# Altium footprint library QSS-048-01-X-D-DP-A.PcbLib: 1 footprints
Each footprint in its own frame and in the unit in brackets; x right, y up, seen from the top. Pads: shape width x height; smd on the part's side, far side on the other; paste and mask are expansions set on the pad; w line width, h text height; cw(c..) or ccw(c..) is an arc to the next point about the centre after c.
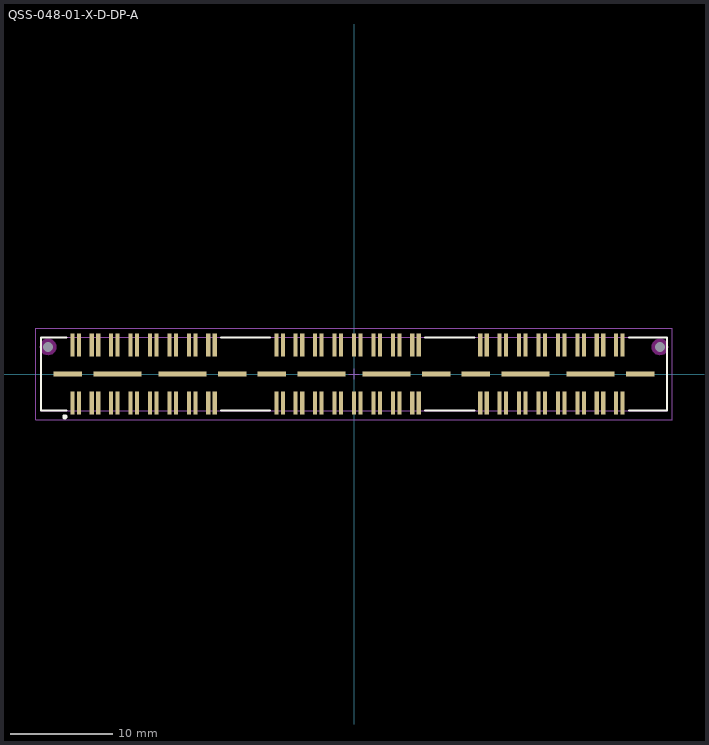
[diagram p0: the footprint, top view; thin cyan lines are the x and y axes]

## QSS-048-01-X-D-DP-A [mm] "0.635mm pitch, high speed socket; differential pair array"
height 3.43
pads (110):
  rect 0.4x2.25 smd mask+0: 1(-27.62,-2.865) 2(-27.62,2.865) 3(-26.98,-2.865) 4(-26.98,2.865) 5(-25.716,-2.865) 6(-25.716,2.865) 7(-25.076,-2.865) 8(-25.076,2.865) 9(-23.812,-2.865) 10(-23.812,2.865) 11(-23.172,-2.865) 12(-23.172,2.865) 13(-21.908,-2.865) 14(-21.908,2.865) 15(-21.268,-2.865) 16(-21.268,2.865) 17(-20.004,-2.865) 18(-20.004,2.865) 19(-19.364,-2.865) 20(-19.364,2.865) 21(-18.1,-2.865) 22(-18.1,2.865) 23(-17.46,-2.865) 24(-17.46,2.865) 25(-16.196,-2.865) 26(-16.196,2.865) 27(-15.556,-2.865) 28(-15.556,2.865) 29(-14.292,-2.865) 30(-14.292,2.865) 31(-13.652,-2.865) 32(-13.652,2.865) 33(-7.62,-2.865) 34(-7.62,2.865) 35(-6.98,-2.865) 36(-6.98,2.865) 37(-5.716,-2.865) 38(-5.716,2.865) 39(-5.076,-2.865) 40(-5.076,2.865) 41(-3.812,-2.865) 42(-3.812,2.865) 43(-3.172,-2.865) 44(-3.172,2.865) 45(-1.908,-2.865) 46(-1.908,2.865) 47(-1.268,-2.865) 48(-1.268,2.865) 49(-0.004,-2.865) 50(-0.004,2.865) 51(0.636,-2.865) 52(0.636,2.865) 53(1.9,-2.865) 54(1.9,2.865) 55(2.54,-2.865) 56(2.54,2.865) 57(3.804,-2.865) 58(3.804,2.865) 59(4.444,-2.865) 60(4.444,2.865) 61(5.708,-2.865) 62(5.708,2.865) 63(6.348,-2.865) 64(6.348,2.865) 65(12.38,-2.865) 66(12.38,2.865) 67(13.02,-2.865) 68(13.02,2.865) 69(14.284,-2.865) 70(14.284,2.865) 71(14.924,-2.865) 72(14.924,2.865) 73(16.188,-2.865) 74(16.188,2.865) 75(16.828,-2.865) 76(16.828,2.865) 77(18.092,-2.865) 78(18.092,2.865) 79(18.732,-2.865) 80(18.732,2.865) 81(19.996,-2.865) 82(19.996,2.865) 83(20.636,-2.865) 84(20.636,2.865) 85(21.9,-2.865) 86(21.9,2.865) 87(22.54,-2.865) 88(22.54,2.865) 89(23.804,-2.865) 90(23.804,2.865) 91(24.444,-2.865) 92(24.444,2.865) 93(25.708,-2.865) 94(25.708,2.865) 95(26.348,-2.865) 96(26.348,2.865)
  rect 2.8x0.45 smd mask+0: 97(-28.065,0) 100(-11.935,0) 101(-8.065,0) 104(8.065,0) 105(11.935,0) 108(28.065,0)
  rect 4.7x0.45 smd mask+0: 98(-23.175,0) 99(-16.825,0) 102(-3.175,0) 103(3.175,0) 106(16.825,0) 107(23.175,0)
  round 0.5 hole 1 unplated mask+0: 109(-30,2.655) 110(30,2.655)
Top Overlay:
  circle w0.25: c-28.35,-4.2 r0.125
  lines w0.2: -28.2,-3.6 -30.7,-3.6 -30.7,3.6 -28.2,3.6 ; -13.05,-3.6 -8.25,-3.6 ; -13.05,3.6 -8.25,3.6 ; 6.95,-3.6 11.8,-3.6 ; 6.95,3.6 11.8,3.6 ; 26.95,-3.6 30.7,-3.6 30.7,3.6 26.95,3.6
Keep-Out Layer:
  pour cut-out: -29.193,2.655 -29.221,2.864 -29.301,3.058 -29.429,3.226 -29.597,3.354 -29.791,3.434 -30,3.462 -30.209,3.434 -30.403,3.354 -30.571,3.226 -30.699,3.058 -30.779,2.864 -30.807,2.655 -30.779,2.446 -30.699,2.252 -30.571,2.084 -30.403,1.956 -30.209,1.876 -30,1.848 -29.791,1.876 -29.597,1.956 -29.429,2.084 -29.301,2.252 -29.221,2.446
  pour cut-out: 30.807,2.655 30.779,2.864 30.699,3.058 30.571,3.226 30.403,3.354 30.209,3.434 30,3.462 29.791,3.434 29.597,3.354 29.429,3.226 29.301,3.058 29.221,2.864 29.193,2.655 29.221,2.446 29.301,2.252 29.429,2.084 29.597,1.956 29.791,1.876 30,1.848 30.209,1.876 30.403,1.956 30.571,2.084 30.699,2.252 30.779,2.446
Mechanical 12:
  lines w0.001: -30.7,-3.6 30.7,-3.6 30.7,3.6 -30.7,3.6 -30.7,-3.6
Mechanical 13:
  lines w0.1: -30.7,-3.6 30.7,-3.6 30.7,3.6 -30.7,3.6 -30.7,-3.6
  text ".Designator" at 0.254,0.254 h1.52
Mechanical 15:
  lines w0.05: -0.5,0 0.5,0 ; 0,-0.5 0,0.5 ; -31.2,-4.5 31.2,-4.5 31.2,4.5 -31.2,4.5 -31.2,-4.5